# EAGLE library part LTC2480 (library IC)
Linear Technology LTC2480 16-Bit ADC with easy drive input current cancellation
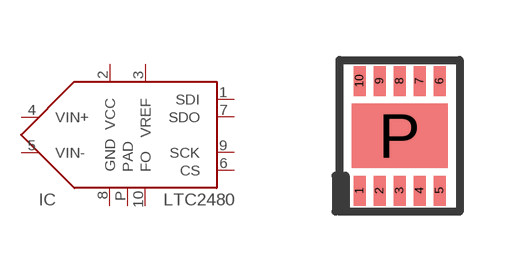
[diagram p139: symbol with the pads of DFN10; footprint DFN10]

Designator prefix IC

## LTC2480  [DFN10]
1  SDI  in
2  VCC  pwr
3  VREF  pwr
4  VIN+  in
5  VIN-  in
6  CS  in
7  SDO  out
8  GND  pwr
9  SCK  in
10  FO
P  PAD  pwr

## Footprint DFN10 (pad centres in mm)
DFN 10 lead package, Linear Tech
smd 0.3 x 0.75: 1 -1,-1.375; 2 -0.5,-1.375; 3 0,-1.375; 4 0.5,-1.375; 5 1,-1.375; 6 1,1.375; 7 0.5,1.375; 8 0,1.375; 9 -0.5,1.375; 10 -1,1.375
smd 2.4 x 1.6: P 0,0